# Altium schematic symbol library USB micro B connector Schematic.SchLib: 1 symbol
Pins are listed as number, name and electrical type; pins without a type are passive.

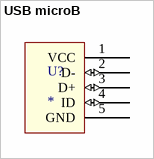
[diagram p0: symbol USB microB]

## USB microB
designator U?
Usb female connector SMD micro B
footprint USB micro B connector
pins: 1 VCC (power), 2 D- (io), 3 D+ (io), 4 ID (io), 5 GND (power), 6 (power) hidden to GND, 7 (power) hidden to GND, 8 (power) hidden to GND, 9 (power) hidden to GND, 10 (power) hidden to GND, 11 (power) hidden to GND